# EAGLE library part CON_HEADER_PRG_AVR_ICSP (library untitled)
2x3 AVR ICSP programming header
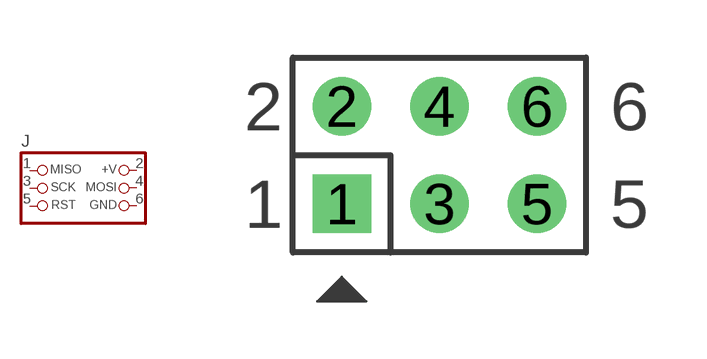
[diagram p10: symbol with the pads of HEADER_PRG_2X03; footprint HEADER_PRG_2X03]

Designator prefix J

## CON_HEADER_PRG_AVR_ICSP  [HEADER_PRG_2X03]
1  MISO  pas
2  +V  pas
3  SCK  pas
4  MOSI  pas
5  RST  pas
6  GND  pas

## Footprint HEADER_PRG_2X03 (pad centres in mm)
drill 1.016 square: 1 -2.54,-1.27
drill 1.016 round: 2 -2.54,1.27; 3 0,-1.27; 4 0,1.27; 5 2.54,-1.27; 6 2.54,1.27